# EAGLE library part B7P-VH (library jst-vh)
Wire-to-Board 3.96mm pitch top mount connector Source: http://www.jst-mfg.com/product/pdf/jpn/VH.pdf http://www.jst-mfg.com/product/detail.php?series=262
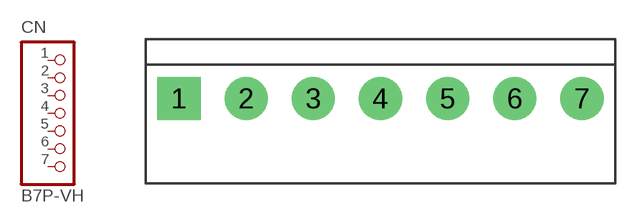
[diagram p1: symbol with the pads of B7P-VH; footprint B7P-VH]

Designator prefix CN

## B7P-VH  [B7P-VH]
1  1  pas
2  2  pas
3  3  pas
4  4  pas
5  5  pas
6  6  pas
7  7  pas

## Footprint B7P-VH (pad centres in mm)
drill 1.7 square: 1 -11.88,0
drill 1.7: 2 -7.92,0; 3 -3.96,0; 4 0,0; 5 3.96,0; 6 7.92,0; 7 11.88,0